# Altium integrated library Diodes - TVS.IntLib: 5379 symbols (part 43 of 122)
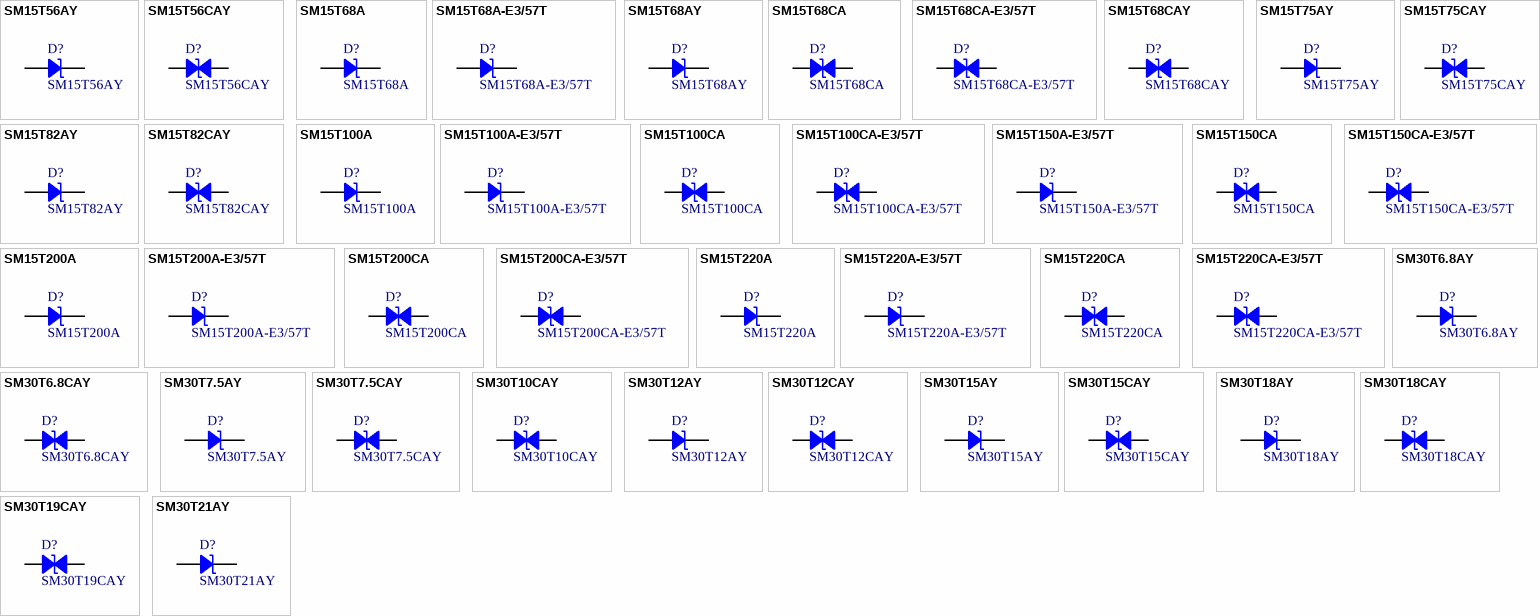
[diagram p176: symbols SM15T56AY to SM30T21AY]

## SM15T100A
designator D?
TVS DIODE 85.5V 178V SMC; Manufacturer: STMicroelectronics; Current - Peak Pulse (10/1000µs): 56A (8/20µs); Power Line Protection: No; Power - Peak Pulse: 1500W (1.5kW); Type: Zener; Unidirectional Channels: 1; Voltage - Breakdown (Min): 95V; Part Number: SM15T100A; Applications: General Purpose; ComponentLink1Description: Datasheet; ComponentLink1URL: http://www.st.com/content/ccc/resource/technical/document/datasheet/a5/63/bb/0d/f0/b8/44/65/CD00000724.pdf/files/CD00000724.pdf/jcr:content/translations/en.CD00000724.pdf; ComponentLink2Description: DigiKey Link; ComponentLink2URL: http://digikey.com/product-detail/en/stmicroelectronics/SM15T100A/497-12050-1-ND/2783793; LastUpdated: 9/2/2020 1:20:03 AM; Lifecycle Status: Active; Minimum Order: 1; Mounting Type: Surface Mount; Operating Temperature: -55°C ~ 150°C (TJ); Package / Case: DO-214AB, SMC; Packaging: TapeAndReel; PartId: 6666; Part Status: Active; Price: 0.33; Series: SM15T, TRANSIL™; Supplier 1: DigiKey; Supplier Part Number 1: 497-12050-1-ND; Supplier Device Package: SMC; Voltage - Clamping (Max) @ Ipp: 178V; Voltage - Reverse Standoff (Typ): 85.5V
footprint DO214AB SMC
pins: 1, 2

## SM15T100A-E3/57T
designator D?
TVS DIODE 85.5V 137V DO214AB; Manufacturer: Vishay Semiconductor Diodes Division; Current - Peak Pulse (10/1000µs): 11A; Power Line Protection: No; Power - Peak Pulse: 1500W (1.5kW); Type: Zener; Unidirectional Channels: 1; Voltage - Breakdown (Min): 95V; Part Number: SM15T100A-E3/57T; Applications: General Purpose; ComponentLink1Description: Datasheet; ComponentLink1URL: http://www.vishay.com/docs/88380/sm15t.pdf; ComponentLink2Description: DigiKey Link; ComponentLink2URL: http://digikey.com/product-detail/en/vishay-semiconductor-diodes-division/SM15T100A-E3-57T/SM15T100A-E3-57TGICT-ND/5639093; LastUpdated: 9/2/2020 1:20:05 AM; Lifecycle Status: Active; Minimum Order: 1; Mounting Type: Surface Mount; Operating Temperature: -65°C ~ 150°C (TJ); Package / Case: DO-214AB, SMC; Packaging: TapeAndReel; PartId: 6914; Part Status: Active; Price: 0.29; Series: SM15T, TransZorb®; Supplier 1: DigiKey; Supplier Part Number 1: SM15T100A-E3/57TGICT-ND; Supplier Device Package: DO-214AB (SMCJ); Voltage - Clamping (Max) @ Ipp: 137V; Voltage - Reverse Standoff (Typ): 85.5V
footprint DO214AB SMC
pins: 1, 2

## SM15T100CA
designator D?
TVS DIODE 85.5V 178V SMC; Manufacturer: STMicroelectronics; Bidirectional Channels: 1; Current - Peak Pulse (10/1000µs): 56A (8/20µs); Power Line Protection: No; Power - Peak Pulse: 1500W (1.5kW); Type: Zener; Voltage - Breakdown (Min): 95V; Part Number: SM15T100CA; Applications: General Purpose; ComponentLink1Description: Datasheet; ComponentLink1URL: http://www.st.com/content/ccc/resource/technical/document/datasheet/a5/63/bb/0d/f0/b8/44/65/CD00000724.pdf/files/CD00000724.pdf/jcr:content/translations/en.CD00000724.pdf; ComponentLink2Description: DigiKey Link; ComponentLink2URL: http://digikey.com/product-detail/en/stmicroelectronics/SM15T100CA/497-6480-1-ND/1865483; LastUpdated: 9/2/2020 1:28:06 AM; Lifecycle Status: Active; Minimum Order: 1; Mounting Type: Surface Mount; Operating Temperature: -55°C ~ 150°C (TJ); Package / Case: DO-214AB, SMC; Packaging: TapeAndReel; PartId: 8436; Part Status: Active; Price: 0.35; Series: SM15T, TRANSIL™; Supplier 1: DigiKey; Supplier Part Number 1: 497-6480-1-ND; Supplier Device Package: SMC; Voltage - Clamping (Max) @ Ipp: 178V; Voltage - Reverse Standoff (Typ): 85.5V
footprint DO214AB SMC
pins: 1, 2

## SM15T100CA-E3/57T
designator D?
TVS DIODE 85.5V 137V DO214AB; Manufacturer: Vishay Semiconductor Diodes Division; Bidirectional Channels: 1; Current - Peak Pulse (10/1000µs): 11A; Power Line Protection: No; Power - Peak Pulse: 1500W (1.5kW); Type: Zener; Voltage - Breakdown (Min): 95V; Part Number: SM15T100CA-E3/57T; Applications: General Purpose; ComponentLink1Description: Datasheet; ComponentLink1URL: http://www.vishay.com/docs/88380/sm15t.pdf; ComponentLink2Description: DigiKey Link; ComponentLink2URL: http://digikey.com/product-detail/en/vishay-semiconductor-diodes-division/SM15T100CA-E3-57T/SM15T100CA-E3-57TGICT-ND/5639094; LastUpdated: 9/2/2020 1:28:09 AM; Lifecycle Status: Active; Minimum Order: 1; Mounting Type: Surface Mount; Operating Temperature: -65°C ~ 150°C (TJ); Package / Case: DO-214AB, SMC; Packaging: TapeAndReel; PartId: 8738; Part Status: Active; Price: 0.34; Series: SM15T, TransZorb®; Supplier 1: DigiKey; Supplier Part Number 1: SM15T100CA-E3/57TGICT-ND; Supplier Device Package: DO-214AB (SMCJ); Voltage - Clamping (Max) @ Ipp: 137V; Voltage - Reverse Standoff (Typ): 85.5V
footprint DO214AB SMC
pins: 1, 2

## SM15T150A-E3/57T
designator D?
TVS DIODE 128V 207V DO214AB; Manufacturer: Vishay Semiconductor Diodes Division; Current - Peak Pulse (10/1000µs): 7.2A; Power Line Protection: No; Power - Peak Pulse: 1500W (1.5kW); Type: Zener; Unidirectional Channels: 1; Voltage - Breakdown (Min): 143V; Part Number: SM15T150A-E3/57T; Applications: General Purpose; ComponentLink1Description: Datasheet; ComponentLink1URL: http://www.vishay.com/docs/88380/sm15t.pdf; ComponentLink2Description: DigiKey Link; ComponentLink2URL: http://digikey.com/product-detail/en/vishay-semiconductor-diodes-division/SM15T150A-E3-57T/SM15T150A-E3-57TGICT-ND/4754434; LastUpdated: 9/2/2020 1:20:01 AM; Lifecycle Status: Active; Minimum Order: 1; Mounting Type: Surface Mount; Operating Temperature: -65°C ~ 150°C (TJ); Package / Case: DO-214AB, SMC; Packaging: TapeAndReel; PartId: 6545; Part Status: Active; Price: 0.29; Series: SM15T, TransZorb®; Supplier 1: DigiKey; Supplier Part Number 1: SM15T150A-E3/57TGICT-ND; Supplier Device Package: DO-214AB (SMCJ); Voltage - Clamping (Max) @ Ipp: 207V; Voltage - Reverse Standoff (Typ): 128V
footprint DO214AB SMC
pins: 1, 2

## SM15T150CA
designator D?
TVS DIODE 128V 265V SMC; Manufacturer: STMicroelectronics; Bidirectional Channels: 1; Current - Peak Pulse (10/1000µs): 38A (8/20µs); Power Line Protection: No; Power - Peak Pulse: 1500W (1.5kW); Type: Zener; Voltage - Breakdown (Min): 143V; Part Number: SM15T150CA; Applications: General Purpose; ComponentLink1Description: Datasheet; ComponentLink1URL: http://www.st.com/content/ccc/resource/technical/document/datasheet/a5/63/bb/0d/f0/b8/44/65/CD00000724.pdf/files/CD00000724.pdf/jcr:content/translations/en.CD00000724.pdf; ComponentLink2Description: DigiKey Link; ComponentLink2URL: http://digikey.com/product-detail/en/stmicroelectronics/SM15T150CA/497-7861-1-ND/1883559; LastUpdated: 9/2/2020 1:28:06 AM; Lifecycle Status: Active; Minimum Order: 1; Mounting Type: Surface Mount; Operating Temperature: -55°C ~ 150°C (TJ); Package / Case: DO-214AB, SMC; Packaging: TapeAndReel; PartId: 8437; Part Status: Active; Price: 0.35; Series: SM15T, TRANSIL™; Supplier 1: DigiKey; Supplier Part Number 1: 497-7861-1-ND; Supplier Device Package: SMC; Voltage - Clamping (Max) @ Ipp: 265V; Voltage - Reverse Standoff (Typ): 128V
footprint DO214AB SMC
pins: 1, 2

## SM15T150CA-E3/57T
designator D?
TVS DIODE 128V 207V DO214AB; Manufacturer: Vishay Semiconductor Diodes Division; Bidirectional Channels: 1; Current - Peak Pulse (10/1000µs): 7.2A; Power Line Protection: No; Power - Peak Pulse: 1500W (1.5kW); Type: Zener; Voltage - Breakdown (Min): 143V; Part Number: SM15T150CA-E3/57T; Applications: General Purpose; ComponentLink1Description: Datasheet; ComponentLink1URL: http://www.vishay.com/docs/88380/sm15t.pdf; ComponentLink2Description: DigiKey Link; ComponentLink2URL: http://digikey.com/product-detail/en/vishay-semiconductor-diodes-division/SM15T150CA-E3-57T/SM15T150CA-E3-57TGICT-ND/5639099; LastUpdated: 9/2/2020 1:28:09 AM; Lifecycle Status: Active; Minimum Order: 1; Mounting Type: Surface Mount; Operating Temperature: -65°C ~ 150°C (TJ); Package / Case: DO-214AB, SMC; Packaging: TapeAndReel; PartId: 8737; Part Status: Active; Price: 0.34; Series: SM15T, TransZorb®; Supplier 1: DigiKey; Supplier Part Number 1: SM15T150CA-E3/57TGICT-ND; Supplier Device Package: DO-214AB (SMCJ); Voltage - Clamping (Max) @ Ipp: 207V; Voltage - Reverse Standoff (Typ): 128V
footprint DO214AB SMC
pins: 1, 2

## SM15T200A
designator D?
TVS DIODE 171V 353V SMC; Manufacturer: STMicroelectronics; Current - Peak Pulse (10/1000µs): 28A (8/20µs); Power Line Protection: No; Power - Peak Pulse: 1500W (1.5kW); Type: Zener; Unidirectional Channels: 1; Voltage - Breakdown (Min): 190V; Part Number: SM15T200A; Applications: General Purpose; ComponentLink1Description: Datasheet; ComponentLink1URL: http://www.st.com/content/ccc/resource/technical/document/datasheet/a5/63/bb/0d/f0/b8/44/65/CD00000724.pdf/files/CD00000724.pdf/jcr:content/translations/en.CD00000724.pdf; ComponentLink2Description: DigiKey Link; ComponentLink2URL: http://digikey.com/product-detail/en/stmicroelectronics/SM15T200A/497-12772-1-ND/2873837; LastUpdated: 9/2/2020 1:20:08 AM; Lifecycle Status: Active; Minimum Order: 1; Mounting Type: Surface Mount; Operating Temperature: -55°C ~ 150°C (TJ); Package / Case: DO-214AB, SMC; Packaging: TapeAndReel; PartId: 7206; Part Status: Active; Price: 0.32; Series: SM15T, TRANSIL™; Supplier 1: DigiKey; Supplier Part Number 1: 497-12772-1-ND; Supplier Device Package: SMC; Voltage - Clamping (Max) @ Ipp: 353V; Voltage - Reverse Standoff (Typ): 171V
footprint DO214AB SMC
pins: 1, 2

## SM15T200A-E3/57T
designator D?
TVS DIODE 171V 274V DO214AB; Manufacturer: Vishay Semiconductor Diodes Division; Current - Peak Pulse (10/1000µs): 5.5A; Power Line Protection: No; Power - Peak Pulse: 1500W (1.5kW); Type: Zener; Unidirectional Channels: 1; Voltage - Breakdown (Min): 190V; Part Number: SM15T200A-E3/57T; Applications: General Purpose; ComponentLink1Description: Datasheet; ComponentLink1URL: http://www.vishay.com/docs/88380/sm15t.pdf; ComponentLink2Description: DigiKey Link; ComponentLink2URL: http://digikey.com/product-detail/en/vishay-semiconductor-diodes-division/SM15T200A-E3-57T/SM15T200A-E3-57TGICT-ND/5639102; LastUpdated: 9/2/2020 1:20:08 AM; Lifecycle Status: Active; Minimum Order: 1; Mounting Type: Surface Mount; Operating Temperature: -65°C ~ 150°C (TJ); Package / Case: DO-214AB, SMC; Packaging: TapeAndReel; PartId: 7230; Part Status: Active; Price: 0.29; Series: SM15T, TransZorb®; Supplier 1: DigiKey; Supplier Part Number 1: SM15T200A-E3/57TGICT-ND; Supplier Device Package: DO-214AB (SMCJ); Voltage - Clamping (Max) @ Ipp: 274V; Voltage - Reverse Standoff (Typ): 171V
footprint DO214AB SMC
pins: 1, 2

## SM15T200CA
designator D?
TVS DIODE 171V 353V SMC; Manufacturer: STMicroelectronics; Bidirectional Channels: 1; Current - Peak Pulse (10/1000µs): 28A (8/20µs); Power Line Protection: No; Power - Peak Pulse: 1500W (1.5kW); Type: Zener; Voltage - Breakdown (Min): 190V; Part Number: SM15T200CA; Applications: General Purpose; ComponentLink1Description: Datasheet; ComponentLink1URL: http://www.st.com/content/ccc/resource/technical/document/datasheet/a5/63/bb/0d/f0/b8/44/65/CD00000724.pdf/files/CD00000724.pdf/jcr:content/translations/en.CD00000724.pdf; ComponentLink2Description: DigiKey Link; ComponentLink2URL: http://digikey.com/product-detail/en/stmicroelectronics/SM15T200CA/497-6483-1-ND/1865467; LastUpdated: 9/2/2020 1:28:05 AM; Lifecycle Status: Active; Minimum Order: 1; Mounting Type: Surface Mount; Operating Temperature: -55°C ~ 150°C (TJ); Package / Case: DO-214AB, SMC; Packaging: TapeAndReel; PartId: 8271; Part Status: Active; Price: 0.35; Series: SM15T, TRANSIL™; Supplier 1: DigiKey; Supplier Part Number 1: 497-6483-1-ND; Supplier Device Package: SMC; Voltage - Clamping (Max) @ Ipp: 353V; Voltage - Reverse Standoff (Typ): 171V
footprint DO214AB SMC
pins: 1, 2

## SM15T200CA-E3/57T
designator D?
TVS DIODE 171V 274V DO214AB; Manufacturer: Vishay Semiconductor Diodes Division; Bidirectional Channels: 1; Current - Peak Pulse (10/1000µs): 5.5A; Power Line Protection: No; Power - Peak Pulse: 1500W (1.5kW); Type: Zener; Voltage - Breakdown (Min): 190V; Part Number: SM15T200CA-E3/57T; Applications: General Purpose; ComponentLink1Description: Datasheet; ComponentLink1URL: http://www.vishay.com/docs/88380/sm15t.pdf; ComponentLink2Description: DigiKey Link; ComponentLink2URL: http://digikey.com/product-detail/en/vishay-semiconductor-diodes-division/SM15T200CA-E3-57T/SM15T200CA-E3-57TGICT-ND/5639103; LastUpdated: 9/2/2020 1:28:08 AM; Lifecycle Status: Active; Minimum Order: 1; Mounting Type: Surface Mount; Operating Temperature: -65°C ~ 150°C (TJ); Package / Case: DO-214AB, SMC; Packaging: TapeAndReel; PartId: 8656; Part Status: Active; Price: 0.34; Series: SM15T, TransZorb®; Supplier 1: DigiKey; Supplier Part Number 1: SM15T200CA-E3/57TGICT-ND; Supplier Device Package: DO-214AB (SMCJ); Voltage - Clamping (Max) @ Ipp: 274V; Voltage - Reverse Standoff (Typ): 171V
footprint DO214AB SMC
pins: 1, 2

## SM15T220A
designator D?
TVS DIODE 188V 388V SMC; Manufacturer: STMicroelectronics; Current - Peak Pulse (10/1000µs): 26A (8/20µs); Power Line Protection: No; Power - Peak Pulse: 1500W (1.5kW); Type: Zener; Unidirectional Channels: 1; Voltage - Breakdown (Min): 209V; Part Number: SM15T220A; Applications: General Purpose; ComponentLink1Description: Datasheet; ComponentLink1URL: http://www.st.com/content/ccc/resource/technical/document/datasheet/a5/63/bb/0d/f0/b8/44/65/CD00000724.pdf/files/CD00000724.pdf/jcr:content/translations/en.CD00000724.pdf; ComponentLink2Description: DigiKey Link; ComponentLink2URL: http://digikey.com/product-detail/en/stmicroelectronics/SM15T220A/497-6484-1-ND/1865946; LastUpdated: 9/2/2020 1:20:06 AM; Lifecycle Status: Active; Minimum Order: 1; Mounting Type: Surface Mount; Operating Temperature: -55°C ~ 150°C (TJ); Package / Case: DO-214AB, SMC; Packaging: TapeAndReel; PartId: 7046; Part Status: Active; Price: 0.33; Series: SM15T, TRANSIL™; Supplier 1: DigiKey; Supplier Part Number 1: 497-6484-1-ND; Supplier Device Package: SMC; Voltage - Clamping (Max) @ Ipp: 388V; Voltage - Reverse Standoff (Typ): 188V
footprint DO214AB SMC
pins: 1, 2

## SM15T220A-E3/57T
designator D?
TVS DIODE 188V 328V DO214AB; Manufacturer: Vishay Semiconductor Diodes Division; Current - Peak Pulse (10/1000µs): 4.6A; Power Line Protection: No; Power - Peak Pulse: 1500W (1.5kW); Type: Zener; Unidirectional Channels: 1; Voltage - Breakdown (Min): 209V; Part Number: SM15T220A-E3/57T; Applications: General Purpose; ComponentLink1Description: Datasheet; ComponentLink1URL: http://www.vishay.com/docs/88380/sm15t.pdf; ComponentLink2Description: DigiKey Link; ComponentLink2URL: http://digikey.com/product-detail/en/vishay-semiconductor-diodes-division/SM15T220A-E3-57T/SM15T220A-E3-57TGICT-ND/5639104; LastUpdated: 9/2/2020 1:19:59 AM; Lifecycle Status: Active; Minimum Order: 1; Mounting Type: Surface Mount; Operating Temperature: -65°C ~ 150°C (TJ); Package / Case: DO-214AB, SMC; Packaging: TapeAndReel; PartId: 6288; Part Status: Active; Price: 0.29; Series: SM15T, TransZorb®; Supplier 1: DigiKey; Supplier Part Number 1: SM15T220A-E3/57TGICT-ND; Supplier Device Package: DO-214AB (SMCJ); Voltage - Clamping (Max) @ Ipp: 328V; Voltage - Reverse Standoff (Typ): 188V
footprint DO214AB SMC
pins: 1, 2

## SM15T220CA
designator D?
TVS DIODE 188V 388V SMC; Manufacturer: STMicroelectronics; Bidirectional Channels: 1; Current - Peak Pulse (10/1000µs): 26A (8/20µs); Power Line Protection: No; Power - Peak Pulse: 1500W (1.5kW); Type: Zener; Voltage - Breakdown (Min): 209V; Part Number: SM15T220CA; Applications: General Purpose; ComponentLink1Description: Datasheet; ComponentLink1URL: http://www.st.com/content/ccc/resource/technical/document/datasheet/a5/63/bb/0d/f0/b8/44/65/CD00000724.pdf/files/CD00000724.pdf/jcr:content/translations/en.CD00000724.pdf; ComponentLink2Description: DigiKey Link; ComponentLink2URL: http://digikey.com/product-detail/en/stmicroelectronics/SM15T220CA/497-7866-1-ND/1883467; LastUpdated: 9/2/2020 1:28:08 AM; Lifecycle Status: Active; Minimum Order: 1; Mounting Type: Surface Mount; Operating Temperature: -55°C ~ 150°C (TJ); Package / Case: DO-214AB, SMC; Packaging: TapeAndReel; PartId: 8679; Part Status: Active; Price: 0.35; Series: SM15T, TRANSIL™; Supplier 1: DigiKey; Supplier Part Number 1: 497-7866-1-ND; Supplier Device Package: SMC; Voltage - Clamping (Max) @ Ipp: 388V; Voltage - Reverse Standoff (Typ): 188V
footprint DO214AB SMC
pins: 1, 2

## SM15T220CA-E3/57T
designator D?
TVS DIODE 188V 328V DO214AB; Manufacturer: Vishay Semiconductor Diodes Division; Bidirectional Channels: 1; Current - Peak Pulse (10/1000µs): 4.6A; Power Line Protection: No; Power - Peak Pulse: 1500W (1.5kW); Type: Zener; Voltage - Breakdown (Min): 209V; Part Number: SM15T220CA-E3/57T; Applications: General Purpose; ComponentLink1Description: Datasheet; ComponentLink1URL: http://www.vishay.com/docs/88380/sm15t.pdf; ComponentLink2Description: DigiKey Link; ComponentLink2URL: http://digikey.com/product-detail/en/vishay-semiconductor-diodes-division/SM15T220CA-E3-57T/SM15T220CA-E3-57TGICT-ND/5639105; LastUpdated: 9/2/2020 1:28:02 AM; Lifecycle Status: Active; Minimum Order: 1; Mounting Type: Surface Mount; Operating Temperature: -65°C ~ 150°C (TJ); Package / Case: DO-214AB, SMC; Packaging: TapeAndReel; PartId: 8028; Part Status: Active; Price: 0.34; Series: SM15T, TransZorb®; Supplier 1: DigiKey; Supplier Part Number 1: SM15T220CA-E3/57TGICT-ND; Supplier Device Package: DO-214AB (SMCJ); Voltage - Clamping (Max) @ Ipp: 328V; Voltage - Reverse Standoff (Typ): 188V
footprint DO214AB SMC
pins: 1, 2

## SM30T6.8AY
designator D?
TVS DIODE 5V 9.2V SMC; Manufacturer: STMicroelectronics; Current - Peak Pulse (10/1000µs): 327A; Power Line Protection: No; Power - Peak Pulse: 3000W (3kW); Type: Zener; Unidirectional Channels: 1; Voltage - Breakdown (Min): 6.45V; Part Number: SM30T6.8AY; Applications: Automotive; ComponentLink1Description: Datasheet; ComponentLink1URL: http://www.st.com/content/ccc/resource/technical/document/datasheet/90/0c/ab/be/9d/d1/49/bd/DM00035136.pdf/files/DM00035136.pdf/jcr:content/translations/en.DM00035136.pdf; ComponentLink2Description: DigiKey Link; ComponentLink2URL: http://digikey.com/product-detail/en/stmicroelectronics/SM30T6.8AY/497-15403-1-ND/5210277; LastUpdated: 9/2/2020 1:20:07 AM; Lifecycle Status: Active; Minimum Order: 1; Mounting Type: Surface Mount; Operating Temperature: -55°C ~ 175°C (TJ); Package / Case: DO-214AB, SMC; Packaging: TapeAndReel; PartId: 7168; Part Status: Active; Price: 0.57; Series: Automotive, AEC-Q101, SM30TY, TRANSIL™; Supplier 1: DigiKey; Supplier Part Number 1: 497-15403-1-ND; Supplier Device Package: SMC (DO-214AB); Voltage - Clamping (Max) @ Ipp: 9.2V; Voltage - Reverse Standoff (Typ): 5V
footprint DO214AB SMC
pins: 1, 2

## SM30T6.8CAY
designator D?
TVS DIODE 5V 9.2V SMC; Manufacturer: STMicroelectronics; Bidirectional Channels: 1; Current - Peak Pulse (10/1000µs): 327A; Power Line Protection: No; Power - Peak Pulse: 3000W (3kW); Type: Zener; Voltage - Breakdown (Min): 6.45V; Part Number: SM30T6.8CAY; Applications: Automotive; ComponentLink1Description: Datasheet; ComponentLink1URL: http://www.st.com/content/ccc/resource/technical/document/datasheet/90/0c/ab/be/9d/d1/49/bd/DM00035136.pdf/files/DM00035136.pdf/jcr:content/translations/en.DM00035136.pdf; ComponentLink2Description: DigiKey Link; ComponentLink2URL: http://digikey.com/product-detail/en/stmicroelectronics/SM30T6.8CAY/497-15404-1-ND/5210278; LastUpdated: 9/2/2020 1:28:08 AM; Lifecycle Status: Active; Minimum Order: 1; Mounting Type: Surface Mount; Operating Temperature: -55°C ~ 175°C (TJ); Package / Case: DO-214AB, SMC; Packaging: TapeAndReel; PartId: 8675; Part Status: Active; Price: 0.69; Series: Automotive, AEC-Q101, SM30TY, TRANSIL™; Supplier 1: DigiKey; Supplier Part Number 1: 497-15404-1-ND; Supplier Device Package: SMC (DO-214AB); Voltage - Clamping (Max) @ Ipp: 9.2V; Voltage - Reverse Standoff (Typ): 5V
footprint DO214AB SMC
pins: 1, 2

## SM30T7.5AY
designator D?
TVS DIODE 6.5V 11.2V SMC; Manufacturer: STMicroelectronics; Current - Peak Pulse (10/1000µs): 268A; Power Line Protection: No; Power - Peak Pulse: 3000W (3kW); Type: Zener; Unidirectional Channels: 1; Voltage - Breakdown (Min): 7.13V; Part Number: SM30T7.5AY; Applications: Automotive; ComponentLink1Description: Datasheet; ComponentLink1URL: http://www.st.com/content/ccc/resource/technical/document/datasheet/90/0c/ab/be/9d/d1/49/bd/DM00035136.pdf/files/DM00035136.pdf/jcr:content/translations/en.DM00035136.pdf; ComponentLink2Description: DigiKey Link; ComponentLink2URL: http://digikey.com/product-detail/en/stmicroelectronics/SM30T7.5AY/497-15405-1-ND/5210279; LastUpdated: 9/2/2020 1:19:58 AM; Lifecycle Status: Active; Minimum Order: 1; Mounting Type: Surface Mount; Operating Temperature: -55°C ~ 175°C (TJ); Package / Case: DO-214AB, SMC; Packaging: TapeAndReel; PartId: 6242; Part Status: Active; Price: 0.57; Series: Automotive, AEC-Q101, SM30TY, TRANSIL™; Supplier 1: DigiKey; Supplier Part Number 1: 497-15405-1-ND; Supplier Device Package: SMC (DO-214AB); Voltage - Clamping (Max) @ Ipp: 11.2V; Voltage - Reverse Standoff (Typ): 6.5V
footprint DO214AB SMC
pins: 1, 2

## SM30T7.5CAY
designator D?
TVS DIODE 6.5V 11.2V SMC; Manufacturer: STMicroelectronics; Bidirectional Channels: 1; Current - Peak Pulse (10/1000µs): 268A; Power Line Protection: No; Power - Peak Pulse: 3000W (3kW); Type: Zener; Voltage - Breakdown (Min): 7.13V; Part Number: SM30T7.5CAY; Applications: Automotive; ComponentLink1Description: Datasheet; ComponentLink1URL: http://www.st.com/content/ccc/resource/technical/document/datasheet/90/0c/ab/be/9d/d1/49/bd/DM00035136.pdf/files/DM00035136.pdf/jcr:content/translations/en.DM00035136.pdf; ComponentLink2Description: DigiKey Link; ComponentLink2URL: http://digikey.com/product-detail/en/stmicroelectronics/SM30T7.5CAY/497-15406-1-ND/5210280; LastUpdated: 9/2/2020 1:28:07 AM; Lifecycle Status: Active; Minimum Order: 1; Mounting Type: Surface Mount; Operating Temperature: -55°C ~ 175°C (TJ); Package / Case: DO-214AB, SMC; Packaging: TapeAndReel; PartId: 8589; Part Status: Active; Price: 0.69; Series: Automotive, AEC-Q101, SM30TY, TRANSIL™; Supplier 1: DigiKey; Supplier Part Number 1: 497-15406-1-ND; Supplier Device Package: SMC (DO-214AB); Voltage - Clamping (Max) @ Ipp: 11.2V; Voltage - Reverse Standoff (Typ): 6.5V
footprint DO214AB SMC
pins: 1, 2

## SM30T10CAY
designator D?
TVS DIODE 8.5V 14.4V SMC; Manufacturer: STMicroelectronics; Bidirectional Channels: 1; Current - Peak Pulse (10/1000µs): 208A; Power Line Protection: No; Power - Peak Pulse: 3000W (3kW); Type: Zener; Voltage - Breakdown (Min): 9.5V; Part Number: SM30T10CAY; Applications: Automotive; ComponentLink1Description: Datasheet; ComponentLink1URL: http://www.st.com/content/ccc/resource/technical/document/datasheet/90/0c/ab/be/9d/d1/49/bd/DM00035136.pdf/files/DM00035136.pdf/jcr:content/translations/en.DM00035136.pdf; ComponentLink2Description: DigiKey Link; ComponentLink2URL: http://digikey.com/product-detail/en/stmicroelectronics/SM30T10CAY/497-15398-1-ND/5210272; LastUpdated: 9/2/2020 1:28:01 AM; Lifecycle Status: Active; Minimum Order: 1; Mounting Type: Surface Mount; Operating Temperature: -55°C ~ 175°C (TJ); Package / Case: DO-214AB, SMC; Packaging: TapeAndReel; PartId: 7894; Part Status: Active; Price: 0.69; Series: Automotive, AEC-Q101, SM30TY, TRANSIL™; Supplier 1: DigiKey; Supplier Part Number 1: 497-15398-1-ND; Supplier Device Package: SMC (DO-214AB); Voltage - Clamping (Max) @ Ipp: 14.4V; Voltage - Reverse Standoff (Typ): 8.5V
footprint DO214AB SMC
pins: 1, 2

## SM30T12AY
designator D?
TVS DIODE 10V 17V SMC; Manufacturer: STMicroelectronics; Current - Peak Pulse (10/1000µs): 176A; Power Line Protection: No; Power - Peak Pulse: 3000W (3kW); Type: Zener; Unidirectional Channels: 1; Voltage - Breakdown (Min): 11.4V; Part Number: SM30T12AY; Applications: Automotive; ComponentLink1Description: Datasheet; ComponentLink1URL: http://www.st.com/content/ccc/resource/technical/document/datasheet/90/0c/ab/be/9d/d1/49/bd/DM00035136.pdf/files/DM00035136.pdf/jcr:content/translations/en.DM00035136.pdf; ComponentLink2Description: DigiKey Link; ComponentLink2URL: http://digikey.com/product-detail/en/stmicroelectronics/SM30T12AY/497-15399-1-ND/5210273; LastUpdated: 9/2/2020 1:19:58 AM; Lifecycle Status: Active; Minimum Order: 1; Mounting Type: Surface Mount; Operating Temperature: -55°C ~ 175°C (TJ); Package / Case: DO-214AB, SMC; Packaging: TapeAndReel; PartId: 6243; Part Status: Active; Price: 0.57; Series: Automotive, AEC-Q101, SM30TY, TRANSIL™; Supplier 1: DigiKey; Supplier Part Number 1: 497-15399-1-ND; Supplier Device Package: SMC (DO-214AB); Voltage - Clamping (Max) @ Ipp: 17V; Voltage - Reverse Standoff (Typ): 10V
footprint DO214AB SMC
pins: 1, 2

## SM30T12CAY
designator D?
TVS DIODE 10V 17V SMC; Manufacturer: STMicroelectronics; Bidirectional Channels: 1; Current - Peak Pulse (10/1000µs): 176A; Power Line Protection: No; Power - Peak Pulse: 3000W (3kW); Type: Zener; Voltage - Breakdown (Min): 11.4V; Part Number: SM30T12CAY; Applications: Automotive; ComponentLink1Description: Datasheet; ComponentLink1URL: http://www.st.com/content/ccc/resource/technical/document/datasheet/90/0c/ab/be/9d/d1/49/bd/DM00035136.pdf/files/DM00035136.pdf/jcr:content/translations/en.DM00035136.pdf; ComponentLink2Description: DigiKey Link; ComponentLink2URL: http://digikey.com/product-detail/en/stmicroelectronics/SM30T12CAY/497-15400-1-ND/5210274; LastUpdated: 9/2/2020 1:28:01 AM; Lifecycle Status: Active; Minimum Order: 1; Mounting Type: Surface Mount; Operating Temperature: -55°C ~ 175°C (TJ); Package / Case: DO-214AB, SMC; Packaging: TapeAndReel; PartId: 7893; Part Status: Active; Price: 0.69; Series: Automotive, AEC-Q101, SM30TY, TRANSIL™; Supplier 1: DigiKey; Supplier Part Number 1: 497-15400-1-ND; Supplier Device Package: SMC (DO-214AB); Voltage - Clamping (Max) @ Ipp: 17V; Voltage - Reverse Standoff (Typ): 10V
footprint DO214AB SMC
pins: 1, 2

## SM30T15AY
designator D?
TVS DIODE 13V 21.5V SMC; Manufacturer: STMicroelectronics; Current - Peak Pulse (10/1000µs): 140A; Power Line Protection: No; Power - Peak Pulse: 3000W (3kW); Type: Zener; Unidirectional Channels: 1; Voltage - Breakdown (Min): 14.3V; Part Number: SM30T15AY; Applications: Automotive; ComponentLink1Description: Datasheet; ComponentLink1URL: http://www.st.com/content/ccc/resource/technical/document/datasheet/90/0c/ab/be/9d/d1/49/bd/DM00035136.pdf/files/DM00035136.pdf/jcr:content/translations/en.DM00035136.pdf; ComponentLink2Description: DigiKey Link; ComponentLink2URL: http://digikey.com/product-detail/en/stmicroelectronics/SM30T15AY/497-15401-1-ND/5210275; LastUpdated: 9/2/2020 1:20:06 AM; Lifecycle Status: Active; Minimum Order: 1; Mounting Type: Surface Mount; Operating Temperature: -55°C ~ 175°C (TJ); Package / Case: DO-214AB, SMC; Packaging: TapeAndReel; PartId: 7035; Part Status: Active; Price: 0.57; Series: Automotive, AEC-Q101, SM30TY, TRANSIL™; Supplier 1: DigiKey; Supplier Part Number 1: 497-15401-1-ND; Supplier Device Package: SMC (DO-214AB); Voltage - Clamping (Max) @ Ipp: 21.5V; Voltage - Reverse Standoff (Typ): 13V
footprint DO214AB SMC
pins: 1, 2

## SM30T15CAY
designator D?
TVS DIODE 13V 21.5V SMC; Manufacturer: STMicroelectronics; Bidirectional Channels: 1; Current - Peak Pulse (10/1000µs): 140A; Power Line Protection: No; Power - Peak Pulse: 3000W (3kW); Type: Zener; Voltage - Breakdown (Min): 14.3V; Part Number: SM30T15CAY; Applications: Automotive; ComponentLink1Description: Datasheet; ComponentLink1URL: http://www.st.com/content/ccc/resource/technical/document/datasheet/90/0c/ab/be/9d/d1/49/bd/DM00035136.pdf/files/DM00035136.pdf/jcr:content/translations/en.DM00035136.pdf; ComponentLink2Description: DigiKey Link; ComponentLink2URL: http://digikey.com/product-detail/en/stmicroelectronics/SM30T15CAY/497-15402-1-ND/5210276; LastUpdated: 9/2/2020 1:28:08 AM; Lifecycle Status: Active; Minimum Order: 1; Mounting Type: Surface Mount; Operating Temperature: -55°C ~ 175°C (TJ); Package / Case: DO-214AB, SMC; Packaging: TapeAndReel; PartId: 8617; Part Status: Active; Price: 0.69; Series: Automotive, AEC-Q101, SM30TY, TRANSIL™; Supplier 1: DigiKey; Supplier Part Number 1: 497-15402-1-ND; Supplier Device Package: SMC (DO-214AB); Voltage - Clamping (Max) @ Ipp: 21.5V; Voltage - Reverse Standoff (Typ): 13V
footprint DO214AB SMC
pins: 1, 2

## SM30T18AY
designator D?
TVS DIODE 15V 24.4V SMC; Manufacturer: STMicroelectronics; Current - Peak Pulse (10/1000µs): 123A; Power Line Protection: No; Power - Peak Pulse: 3000W (3kW); Type: Zener; Unidirectional Channels: 1; Voltage - Breakdown (Min): 16.7V; Part Number: SM30T18AY; Applications: Automotive; ComponentLink1Description: Datasheet; ComponentLink1URL: http://www.st.com/content/ccc/resource/technical/document/datasheet/90/0c/ab/be/9d/d1/49/bd/DM00035136.pdf/files/DM00035136.pdf/jcr:content/translations/en.DM00035136.pdf; ComponentLink2Description: DigiKey Link; ComponentLink2URL: http://digikey.com/product-detail/en/stmicroelectronics/SM30T18AY/497-12173-1-ND/2826646; LastUpdated: 9/2/2020 1:20:06 AM; Lifecycle Status: Active; Minimum Order: 1; Mounting Type: Surface Mount; Operating Temperature: -55°C ~ 175°C (TJ); Package / Case: DO-214AB, SMC; Packaging: TapeAndReel; PartId: 7030; Part Status: Active; Price: 0.85; Series: Automotive, AEC-Q101, SM30TY, TRANSIL™; Supplier 1: DigiKey; Supplier Part Number 1: 497-12173-1-ND; Supplier Device Package: SMC (DO-214AB); Voltage - Clamping (Max) @ Ipp: 24.4V; Voltage - Reverse Standoff (Typ): 15V
footprint DO214AB SMC
pins: 1, 2

## SM30T18CAY
designator D?
TVS DIODE 15V 24.4V SMC; Manufacturer: STMicroelectronics; Bidirectional Channels: 1; Current - Peak Pulse (10/1000µs): 123A; Power Line Protection: No; Power - Peak Pulse: 3000W (3kW); Type: Zener; Voltage - Breakdown (Min): 16.7V; Part Number: SM30T18CAY; Applications: Automotive; ComponentLink1Description: Datasheet; ComponentLink1URL: http://www.st.com/content/ccc/resource/technical/document/datasheet/90/0c/ab/be/9d/d1/49/bd/DM00035136.pdf/files/DM00035136.pdf/jcr:content/translations/en.DM00035136.pdf; ComponentLink2Description: DigiKey Link; ComponentLink2URL: http://digikey.com/product-detail/en/stmicroelectronics/SM30T18CAY/497-12174-1-ND/2826647; LastUpdated: 9/2/2020 1:28:01 AM; Lifecycle Status: Active; Minimum Order: 1; Mounting Type: Surface Mount; Operating Temperature: -55°C ~ 175°C (TJ); Package / Case: DO-214AB, SMC; Packaging: TapeAndReel; PartId: 7875; Part Status: Active; Price: 0.94; Series: Automotive, AEC-Q101, SM30TY, TRANSIL™; Supplier 1: DigiKey; Supplier Part Number 1: 497-12174-1-ND; Supplier Device Package: SMC (DO-214AB); Voltage - Clamping (Max) @ Ipp: 24.4V; Voltage - Reverse Standoff (Typ): 15V
footprint DO214AB SMC
pins: 1, 2

## SM30T19CAY
designator D?
TVS DIODE 16V 26V SMC; Manufacturer: STMicroelectronics; Bidirectional Channels: 1; Current - Peak Pulse (10/1000µs): 115.4A; Power Line Protection: No; Power - Peak Pulse: 3000W (3kW); Type: Zener; Voltage - Breakdown (Min): 17.8V; Part Number: SM30T19CAY; Applications: Automotive; ComponentLink1Description: Datasheet; ComponentLink1URL: http://www.st.com/content/ccc/resource/technical/document/datasheet/90/0c/ab/be/9d/d1/49/bd/DM00035136.pdf/files/DM00035136.pdf/jcr:content/translations/en.DM00035136.pdf; ComponentLink2Description: DigiKey Link; ComponentLink2URL: http://digikey.com/product-detail/en/stmicroelectronics/SM30T19CAY/497-SM30T19CAYCT-ND/2826649; LastUpdated: 9/2/2020 1:28:01 AM; Lifecycle Status: Active; Minimum Order: 1; Mounting Type: Surface Mount; Operating Temperature: -55°C ~ 175°C (TJ); Package / Case: DO-214AB, SMC; Packaging: TapeAndReel; PartId: 7867; Part Status: Active; Price: 0.94; Series: Automotive, AEC-Q101, SM30TY, TRANSIL™; Supplier 1: DigiKey; Supplier Part Number 1: 497-SM30T19CAYCT-ND; Supplier Device Package: SMC (DO-214AB); Voltage - Clamping (Max) @ Ipp: 26V; Voltage - Reverse Standoff (Typ): 16V
footprint DO214AB SMC
pins: 1, 2

## SM30T21AY
designator D?
TVS DIODE 18V 29.2V SMC; Manufacturer: STMicroelectronics; Current - Peak Pulse (10/1000µs): 102.7A; Power Line Protection: No; Power - Peak Pulse: 3000W (3kW); Type: Zener; Unidirectional Channels: 1; Voltage - Breakdown (Min): 20V; Part Number: SM30T21AY; Applications: Automotive; ComponentLink1Description: Datasheet; ComponentLink1URL: http://www.st.com/content/ccc/resource/technical/document/datasheet/90/0c/ab/be/9d/d1/49/bd/DM00035136.pdf/files/DM00035136.pdf/jcr:content/translations/en.DM00035136.pdf; ComponentLink2Description: DigiKey Link; ComponentLink2URL: http://digikey.com/product-detail/en/stmicroelectronics/SM30T21AY/497-12177-1-ND/2826650; LastUpdated: 9/2/2020 1:20:06 AM; Lifecycle Status: Active; Minimum Order: 1; Mounting Type: Surface Mount; Operating Temperature: -55°C ~ 175°C (TJ); Package / Case: DO-214AB, SMC; Packaging: TapeAndReel; PartId: 7029; Part Status: Active; Price: 0.85; Series: Automotive, AEC-Q101, SM30TY, TRANSIL™; Supplier 1: DigiKey; Supplier Part Number 1: 497-12177-1-ND; Supplier Device Package: SMC (DO-214AB); Voltage - Clamping (Max) @ Ipp: 29.2V; Voltage - Reverse Standoff (Typ): 18V
footprint DO214AB SMC
pins: 1, 2

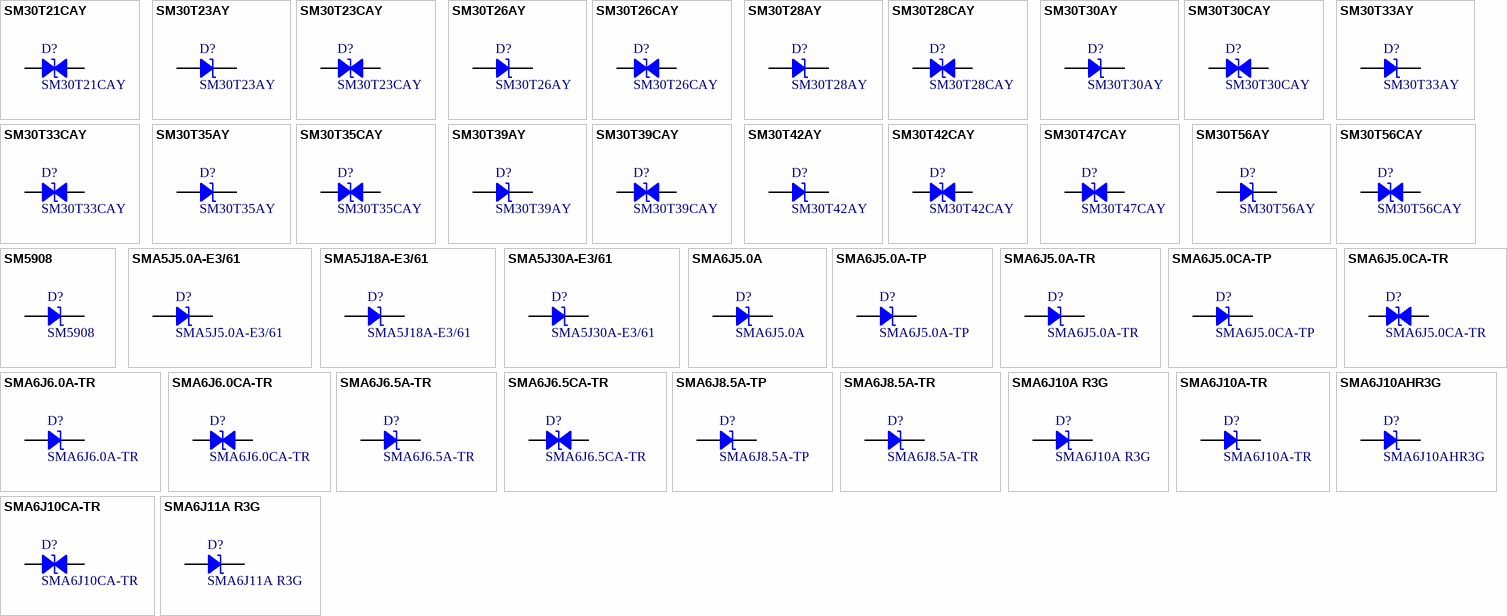
[diagram p47: symbols SM30T21CAY to SMA6J11A R3G]

## SM30T21CAY
designator D?
TVS DIODE 18V 29.2V SMC; Manufacturer: STMicroelectronics; Bidirectional Channels: 1; Current - Peak Pulse (10/1000µs): 102.7A; Power Line Protection: No; Power - Peak Pulse: 3000W (3kW); Type: Zener; Voltage - Breakdown (Min): 20V; Part Number: SM30T21CAY; Applications: Automotive; ComponentLink1Description: Datasheet; ComponentLink1URL: http://www.st.com/content/ccc/resource/technical/document/datasheet/90/0c/ab/be/9d/d1/49/bd/DM00035136.pdf/files/DM00035136.pdf/jcr:content/translations/en.DM00035136.pdf; ComponentLink2Description: DigiKey Link; ComponentLink2URL: http://digikey.com/product-detail/en/stmicroelectronics/SM30T21CAY/497-12178-1-ND/2826651; LastUpdated: 9/2/2020 1:28:01 AM; Lifecycle Status: Active; Minimum Order: 1; Mounting Type: Surface Mount; Operating Temperature: -55°C ~ 175°C (TJ); Package / Case: DO-214AB, SMC; Packaging: TapeAndReel; PartId: 7876; Part Status: Active; Price: 0.94; Series: Automotive, AEC-Q101, SM30TY, TRANSIL™; Supplier 1: DigiKey; Supplier Part Number 1: 497-12178-1-ND; Supplier Device Package: SMC (DO-214AB); Voltage - Clamping (Max) @ Ipp: 29.2V; Voltage - Reverse Standoff (Typ): 18V
footprint DO214AB SMC
pins: 1, 2

## SM30T23AY
designator D?
TVS DIODE 20V 32.4V SMC; Manufacturer: STMicroelectronics; Current - Peak Pulse (10/1000µs): 92.6A; Power Line Protection: No; Power - Peak Pulse: 3000W (3kW); Type: Zener; Unidirectional Channels: 1; Voltage - Breakdown (Min): 22.2V; Part Number: SM30T23AY; Applications: Automotive; ComponentLink1Description: Datasheet; ComponentLink1URL: http://www.st.com/content/ccc/resource/technical/document/datasheet/90/0c/ab/be/9d/d1/49/bd/DM00035136.pdf/files/DM00035136.pdf/jcr:content/translations/en.DM00035136.pdf; ComponentLink2Description: DigiKey Link; ComponentLink2URL: http://digikey.com/product-detail/en/stmicroelectronics/SM30T23AY/497-12179-1-ND/2826652; LastUpdated: 9/2/2020 1:20:06 AM; Lifecycle Status: Active; Minimum Order: 1; Mounting Type: Surface Mount; Operating Temperature: -55°C ~ 175°C (TJ); Package / Case: DO-214AB, SMC; Packaging: TapeAndReel; PartId: 7010; Part Status: Active; Price: 0.85; Series: Automotive, AEC-Q101, SM30TY, TRANSIL™; Supplier 1: DigiKey; Supplier Part Number 1: 497-12179-1-ND; Supplier Device Package: SMC (DO-214AB); Voltage - Clamping (Max) @ Ipp: 32.4V; Voltage - Reverse Standoff (Typ): 20V
footprint DO214AB SMC
pins: 1, 2

## SM30T23CAY
designator D?
TVS DIODE 20V 32.4V SMC; Manufacturer: STMicroelectronics; Bidirectional Channels: 1; Current - Peak Pulse (10/1000µs): 92.6A; Power Line Protection: No; Power - Peak Pulse: 3000W (3kW); Type: Zener; Voltage - Breakdown (Min): 22.2V; Part Number: SM30T23CAY; Applications: Automotive; ComponentLink1Description: Datasheet; ComponentLink1URL: http://www.st.com/content/ccc/resource/technical/document/datasheet/90/0c/ab/be/9d/d1/49/bd/DM00035136.pdf/files/DM00035136.pdf/jcr:content/translations/en.DM00035136.pdf; ComponentLink2Description: DigiKey Link; ComponentLink2URL: http://digikey.com/product-detail/en/stmicroelectronics/SM30T23CAY/497-12180-1-ND/2826653; LastUpdated: 9/2/2020 1:28:05 AM; Lifecycle Status: Active; Minimum Order: 1; Mounting Type: Surface Mount; Operating Temperature: -55°C ~ 175°C (TJ); Package / Case: DO-214AB, SMC; Packaging: TapeAndReel; PartId: 8367; Part Status: Active; Price: 0.94; Series: Automotive, AEC-Q101, SM30TY, TRANSIL™; Supplier 1: DigiKey; Supplier Part Number 1: 497-12180-1-ND; Supplier Device Package: SMC (DO-214AB); Voltage - Clamping (Max) @ Ipp: 32.4V; Voltage - Reverse Standoff (Typ): 20V
footprint DO214AB SMC
pins: 1, 2

## SM30T26AY
designator D?
TVS DIODE 22V 35.5V SMC; Manufacturer: STMicroelectronics; Current - Peak Pulse (10/1000µs): 84.5A; Power Line Protection: No; Power - Peak Pulse: 3000W (3kW); Type: Zener; Unidirectional Channels: 1; Voltage - Breakdown (Min): 24.4V; Part Number: SM30T26AY; Applications: Automotive; ComponentLink1Description: Datasheet; ComponentLink1URL: http://www.st.com/content/ccc/resource/technical/document/datasheet/90/0c/ab/be/9d/d1/49/bd/DM00035136.pdf/files/DM00035136.pdf/jcr:content/translations/en.DM00035136.pdf; ComponentLink2Description: DigiKey Link; ComponentLink2URL: http://digikey.com/product-detail/en/stmicroelectronics/SM30T26AY/497-12181-1-ND/2826654; LastUpdated: 9/2/2020 1:19:58 AM; Lifecycle Status: Active; Minimum Order: 1; Mounting Type: Surface Mount; Operating Temperature: -55°C ~ 175°C (TJ); Package / Case: DO-214AB, SMC; Packaging: TapeAndReel; PartId: 6227; Part Status: Active; Price: 0.85; Series: Automotive, AEC-Q101, SM30TY, TRANSIL™; Supplier 1: DigiKey; Supplier Part Number 1: 497-12181-1-ND; Supplier Device Package: SMC (DO-214AB); Voltage - Clamping (Max) @ Ipp: 35.5V; Voltage - Reverse Standoff (Typ): 22V
footprint DO214AB SMC
pins: 1, 2

## SM30T26CAY
designator D?
TVS DIODE 22V 35.5V SMC; Manufacturer: STMicroelectronics; Bidirectional Channels: 1; Current - Peak Pulse (10/1000µs): 84.5A; Power Line Protection: No; Power - Peak Pulse: 3000W (3kW); Type: Zener; Voltage - Breakdown (Min): 24.4V; Part Number: SM30T26CAY; Applications: Automotive; ComponentLink1Description: Datasheet; ComponentLink1URL: http://www.st.com/content/ccc/resource/technical/document/datasheet/90/0c/ab/be/9d/d1/49/bd/DM00035136.pdf/files/DM00035136.pdf/jcr:content/translations/en.DM00035136.pdf; ComponentLink2Description: DigiKey Link; ComponentLink2URL: http://digikey.com/product-detail/en/stmicroelectronics/SM30T26CAY/497-12182-1-ND/2826655; LastUpdated: 9/2/2020 1:28:05 AM; Lifecycle Status: Active; Minimum Order: 1; Mounting Type: Surface Mount; Operating Temperature: -55°C ~ 175°C (TJ); Package / Case: DO-214AB, SMC; Packaging: TapeAndReel; PartId: 8366; Part Status: Active; Price: 0.94; Series: Automotive, AEC-Q101, SM30TY, TRANSIL™; Supplier 1: DigiKey; Supplier Part Number 1: 497-12182-1-ND; Supplier Device Package: SMC (DO-214AB); Voltage - Clamping (Max) @ Ipp: 35.5V; Voltage - Reverse Standoff (Typ): 22V
footprint DO214AB SMC
pins: 1, 2

## SM30T28AY
designator D?
TVS DIODE 24V 38.9V SMC; Manufacturer: STMicroelectronics; Current - Peak Pulse (10/1000µs): 77.1A; Power Line Protection: No; Power - Peak Pulse: 3000W (3kW); Type: Zener; Unidirectional Channels: 1; Voltage - Breakdown (Min): 26.7V; Part Number: SM30T28AY; Applications: Automotive; ComponentLink1Description: Datasheet; ComponentLink1URL: http://www.st.com/content/ccc/resource/technical/document/datasheet/90/0c/ab/be/9d/d1/49/bd/DM00035136.pdf/files/DM00035136.pdf/jcr:content/translations/en.DM00035136.pdf; ComponentLink2Description: DigiKey Link; ComponentLink2URL: http://digikey.com/product-detail/en/stmicroelectronics/SM30T28AY/497-12183-1-ND/2826656; LastUpdated: 9/2/2020 1:20:06 AM; Lifecycle Status: Active; Minimum Order: 1; Mounting Type: Surface Mount; Operating Temperature: -55°C ~ 175°C (TJ); Package / Case: DO-214AB, SMC; Packaging: TapeAndReel; PartId: 7028; Part Status: Active; Price: 0.85; Series: Automotive, AEC-Q101, SM30TY, TRANSIL™; Supplier 1: DigiKey; Supplier Part Number 1: 497-12183-1-ND; Supplier Device Package: SMC (DO-214AB); Voltage - Clamping (Max) @ Ipp: 38.9V; Voltage - Reverse Standoff (Typ): 24V
footprint DO214AB SMC
pins: 1, 2

## SM30T28CAY
designator D?
TVS DIODE 24V 38.9V SMC; Manufacturer: STMicroelectronics; Bidirectional Channels: 1; Current - Peak Pulse (10/1000µs): 77.1A; Power Line Protection: No; Power - Peak Pulse: 3000W (3kW); Type: Zener; Voltage - Breakdown (Min): 26.7V; Part Number: SM30T28CAY; Applications: Automotive; ComponentLink1Description: Datasheet; ComponentLink1URL: http://www.st.com/content/ccc/resource/technical/document/datasheet/90/0c/ab/be/9d/d1/49/bd/DM00035136.pdf/files/DM00035136.pdf/jcr:content/translations/en.DM00035136.pdf; ComponentLink2Description: DigiKey Link; ComponentLink2URL: http://digikey.com/product-detail/en/stmicroelectronics/SM30T28CAY/497-12184-1-ND/2826657; LastUpdated: 9/2/2020 1:28:08 AM; Lifecycle Status: Active; Minimum Order: 1; Mounting Type: Surface Mount; Operating Temperature: -55°C ~ 175°C (TJ); Package / Case: DO-214AB, SMC; Packaging: TapeAndReel; PartId: 8602; Part Status: Active; Price: 0.94; Series: Automotive, AEC-Q101, SM30TY, TRANSIL™; Supplier 1: DigiKey; Supplier Part Number 1: 497-12184-1-ND; Supplier Device Package: SMC (DO-214AB); Voltage - Clamping (Max) @ Ipp: 38.9V; Voltage - Reverse Standoff (Typ): 24V
footprint DO214AB SMC
pins: 1, 2

## SM30T30AY
designator D?
TVS DIODE 26V 42.1V SMC; Manufacturer: STMicroelectronics; Current - Peak Pulse (10/1000µs): 71.3A; Power Line Protection: No; Power - Peak Pulse: 3000W (3kW); Type: Zener; Unidirectional Channels: 1; Voltage - Breakdown (Min): 28.9V; Part Number: SM30T30AY; Applications: Automotive; ComponentLink1Description: Datasheet; ComponentLink1URL: http://www.st.com/content/ccc/resource/technical/document/datasheet/90/0c/ab/be/9d/d1/49/bd/DM00035136.pdf/files/DM00035136.pdf/jcr:content/translations/en.DM00035136.pdf; ComponentLink2Description: DigiKey Link; ComponentLink2URL: http://digikey.com/product-detail/en/stmicroelectronics/SM30T30AY/497-12185-1-ND/2826658; LastUpdated: 9/2/2020 1:20:06 AM; Lifecycle Status: Active; Minimum Order: 1; Mounting Type: Surface Mount; Operating Temperature: -55°C ~ 175°C (TJ); Package / Case: DO-214AB, SMC; Packaging: TapeAndReel; PartId: 7027; Part Status: Active; Price: 0.85; Series: Automotive, AEC-Q101, SM30TY, TRANSIL™; Supplier 1: DigiKey; Supplier Part Number 1: 497-12185-1-ND; Supplier Device Package: SMC (DO-214AB); Voltage - Clamping (Max) @ Ipp: 42.1V; Voltage - Reverse Standoff (Typ): 26V
footprint DO214AB SMC
pins: 1, 2

## SM30T30CAY
designator D?
TVS DIODE 26V 42.1V SMC; Manufacturer: STMicroelectronics; Bidirectional Channels: 1; Current - Peak Pulse (10/1000µs): 71.3A; Power Line Protection: No; Power - Peak Pulse: 3000W (3kW); Type: Zener; Voltage - Breakdown (Min): 28.9V; Part Number: SM30T30CAY; Applications: Automotive; ComponentLink1Description: Datasheet; ComponentLink1URL: http://www.st.com/content/ccc/resource/technical/document/datasheet/90/0c/ab/be/9d/d1/49/bd/DM00035136.pdf/files/DM00035136.pdf/jcr:content/translations/en.DM00035136.pdf; ComponentLink2Description: DigiKey Link; ComponentLink2URL: http://digikey.com/product-detail/en/stmicroelectronics/SM30T30CAY/497-12186-1-ND/2826659; LastUpdated: 9/2/2020 1:28:08 AM; Lifecycle Status: Active; Minimum Order: 1; Mounting Type: Surface Mount; Operating Temperature: -55°C ~ 175°C (TJ); Package / Case: DO-214AB, SMC; Packaging: TapeAndReel; PartId: 8601; Part Status: Active; Price: 0.94; Series: Automotive, AEC-Q101, SM30TY, TRANSIL™; Supplier 1: DigiKey; Supplier Part Number 1: 497-12186-1-ND; Supplier Device Package: SMC (DO-214AB); Voltage - Clamping (Max) @ Ipp: 42.1V; Voltage - Reverse Standoff (Typ): 26V
footprint DO214AB SMC
pins: 1, 2

## SM30T33AY
designator D?
TVS DIODE 28V 45.4V SMC; Manufacturer: STMicroelectronics; Current - Peak Pulse (10/1000µs): 66.1A; Power Line Protection: No; Power - Peak Pulse: 3000W (3kW); Type: Zener; Unidirectional Channels: 1; Voltage - Breakdown (Min): 31.1V; Part Number: SM30T33AY; Applications: Automotive; ComponentLink1Description: Datasheet; ComponentLink1URL: http://www.st.com/content/ccc/resource/technical/document/datasheet/90/0c/ab/be/9d/d1/49/bd/DM00035136.pdf/files/DM00035136.pdf/jcr:content/translations/en.DM00035136.pdf; ComponentLink2Description: DigiKey Link; ComponentLink2URL: http://digikey.com/product-detail/en/stmicroelectronics/SM30T33AY/497-12187-1-ND/2826660; LastUpdated: 9/2/2020 1:20:06 AM; Lifecycle Status: Active; Minimum Order: 1; Mounting Type: Surface Mount; Operating Temperature: -55°C ~ 175°C (TJ); Package / Case: DO-214AB, SMC; Packaging: TapeAndReel; PartId: 7026; Part Status: Active; Price: 0.85; Series: Automotive, AEC-Q101, SM30TY, TRANSIL™; Supplier 1: DigiKey; Supplier Part Number 1: 497-12187-1-ND; Supplier Device Package: SMC (DO-214AB); Voltage - Clamping (Max) @ Ipp: 45.4V; Voltage - Reverse Standoff (Typ): 28V
footprint DO214AB SMC
pins: 1, 2

## SM30T33CAY
designator D?
TVS DIODE 28V 45.4V SMC; Manufacturer: STMicroelectronics; Bidirectional Channels: 1; Current - Peak Pulse (10/1000µs): 66.1A; Power Line Protection: No; Power - Peak Pulse: 3000W (3kW); Type: Zener; Voltage - Breakdown (Min): 31.1V; Part Number: SM30T33CAY; Applications: Automotive; ComponentLink1Description: Datasheet; ComponentLink1URL: http://www.st.com/content/ccc/resource/technical/document/datasheet/90/0c/ab/be/9d/d1/49/bd/DM00035136.pdf/files/DM00035136.pdf/jcr:content/translations/en.DM00035136.pdf; ComponentLink2Description: DigiKey Link; ComponentLink2URL: http://digikey.com/product-detail/en/stmicroelectronics/SM30T33CAY/497-12188-1-ND/2826661; LastUpdated: 9/2/2020 1:28:06 AM; Lifecycle Status: Active; Minimum Order: 1; Mounting Type: Surface Mount; Operating Temperature: -55°C ~ 175°C (TJ); Package / Case: DO-214AB, SMC; Packaging: TapeAndReel; PartId: 8412; Part Status: Active; Price: 0.94; Series: Automotive, AEC-Q101, SM30TY, TRANSIL™; Supplier 1: DigiKey; Supplier Part Number 1: 497-12188-1-ND; Supplier Device Package: SMC (DO-214AB); Voltage - Clamping (Max) @ Ipp: 45.4V; Voltage - Reverse Standoff (Typ): 28V
footprint DO214AB SMC
pins: 1, 2

## SM30T35AY
designator D?
TVS DIODE 30V 48.4V SMC; Manufacturer: STMicroelectronics; Current - Peak Pulse (10/1000µs): 62A; Power Line Protection: No; Power - Peak Pulse: 3000W (3kW); Type: Zener; Unidirectional Channels: 1; Voltage - Breakdown (Min): 33.3V; Part Number: SM30T35AY; Applications: Automotive; ComponentLink1Description: Datasheet; ComponentLink1URL: http://www.st.com/content/ccc/resource/technical/document/datasheet/90/0c/ab/be/9d/d1/49/bd/DM00035136.pdf/files/DM00035136.pdf/jcr:content/translations/en.DM00035136.pdf; ComponentLink2Description: DigiKey Link; ComponentLink2URL: http://digikey.com/product-detail/en/stmicroelectronics/SM30T35AY/497-12189-1-ND/2826662; LastUpdated: 9/2/2020 1:20:04 AM; Lifecycle Status: Active; Minimum Order: 1; Mounting Type: Surface Mount; Operating Temperature: -55°C ~ 175°C (TJ); Package / Case: DO-214AB, SMC; Packaging: TapeAndReel; PartId: 6818; Part Status: Active; Price: 0.85; Series: Automotive, AEC-Q101, SM30TY, TRANSIL™; Supplier 1: DigiKey; Supplier Part Number 1: 497-12189-1-ND; Supplier Device Package: SMC (DO-214AB); Voltage - Clamping (Max) @ Ipp: 48.4V; Voltage - Reverse Standoff (Typ): 30V
footprint DO214AB SMC
pins: 1, 2

## SM30T35CAY
designator D?
TVS DIODE 30V 48.4V SMC; Manufacturer: STMicroelectronics; Bidirectional Channels: 1; Current - Peak Pulse (10/1000µs): 62A; Power Line Protection: No; Power - Peak Pulse: 3000W (3kW); Type: Zener; Voltage - Breakdown (Min): 33.3V; Part Number: SM30T35CAY; Applications: Automotive; ComponentLink1Description: Datasheet; ComponentLink1URL: http://www.st.com/content/ccc/resource/technical/document/datasheet/90/0c/ab/be/9d/d1/49/bd/DM00035136.pdf/files/DM00035136.pdf/jcr:content/translations/en.DM00035136.pdf; ComponentLink2Description: DigiKey Link; ComponentLink2URL: http://digikey.com/product-detail/en/stmicroelectronics/SM30T35CAY/497-12190-1-ND/2826663; LastUpdated: 9/2/2020 1:28:06 AM; Lifecycle Status: Active; Minimum Order: 1; Mounting Type: Surface Mount; Operating Temperature: -55°C ~ 175°C (TJ); Package / Case: DO-214AB, SMC; Packaging: TapeAndReel; PartId: 8413; Part Status: Active; Price: 0.94; Series: Automotive, AEC-Q101, SM30TY, TRANSIL™; Supplier 1: DigiKey; Supplier Part Number 1: 497-12190-1-ND; Supplier Device Package: SMC (DO-214AB); Voltage - Clamping (Max) @ Ipp: 48.4V; Voltage - Reverse Standoff (Typ): 30V
footprint DO214AB SMC
pins: 1, 2